# Altium footprint library Motorola Footprints.PcbLib: 408 footprints (part 15 of 26)
Each footprint in its own frame and in the unit in brackets; x right, y up, seen from the top. Pads: shape width x height; smd on the part's side, far side on the other; paste and mask are expansions set on the pad; w line width, h text height; cw(c..) or ccw(c..) is an arc to the next point about the centre after c.
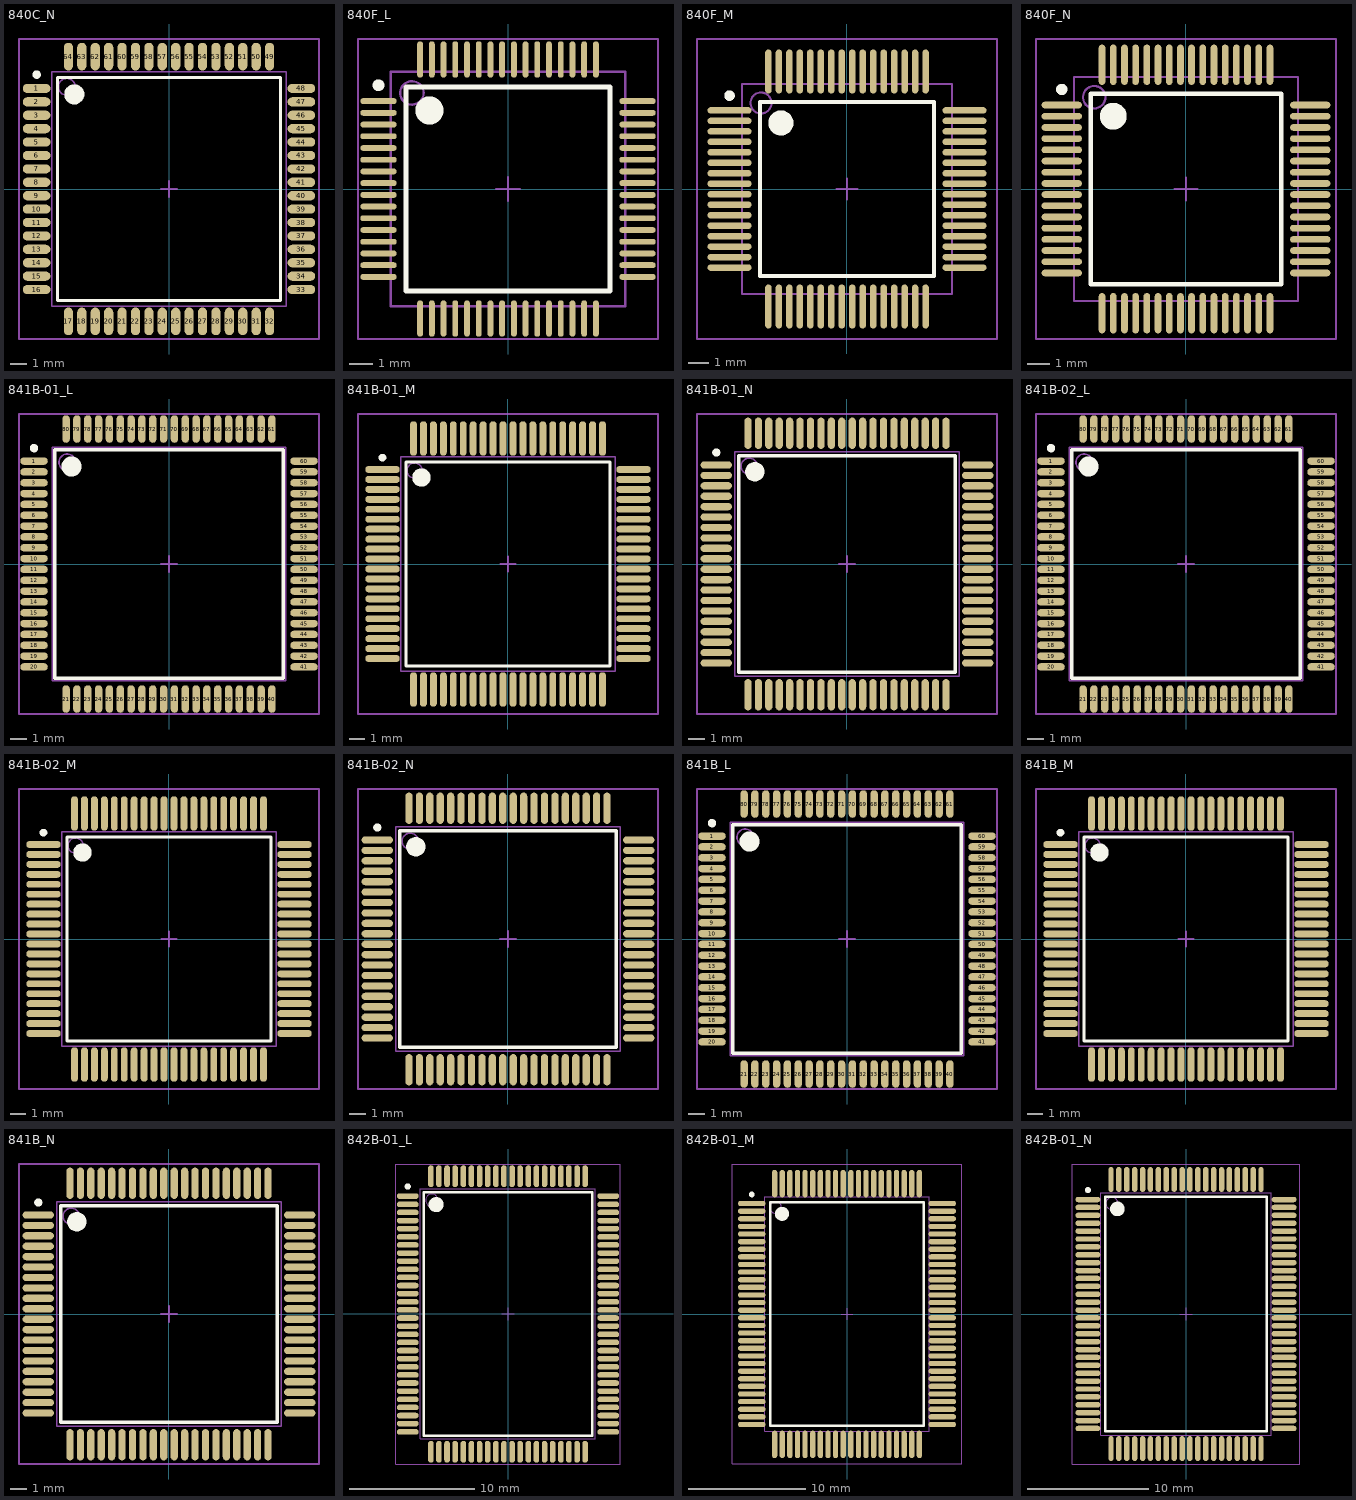
[diagram p14: the footprints below, top view; thin cyan lines are the x and y axes]

## 840C_N [mm] "64-Pin Quad Flat Pack 0.8 mm Pitch, IPC Medium Density"
height 2.46
pads (64):
  oval 1.65x0.55 smd: 1(-7.9,6) 2(-7.9,5.2) 3(-7.9,4.4) 4(-7.9,3.6) 5(-7.9,2.8) 6(-7.9,2) 7(-7.9,1.2) 8(-7.9,0.4) 9(-7.9,-0.4) 10(-7.9,-1.2) 11(-7.9,-2) 12(-7.9,-2.8) 13(-7.9,-3.6) 14(-7.9,-4.4) 15(-7.9,-5.2) 16(-7.9,-6) 33(7.9,-6) 34(7.9,-5.2) 35(7.9,-4.4) 36(7.9,-3.6) 37(7.9,-2.8) 38(7.9,-2) 39(7.9,-1.2) 40(7.9,-0.4) 41(7.9,0.4) 42(7.9,1.2) 43(7.9,2) 44(7.9,2.8) 45(7.9,3.6) 46(7.9,4.4) 47(7.9,5.2) 48(7.9,6)
  oval 0.55x1.65 smd: 17(-6,-7.9) 18(-5.2,-7.9) 19(-4.4,-7.9) 20(-3.6,-7.9) 21(-2.8,-7.9) 22(-2,-7.9) 23(-1.2,-7.9) 24(-0.4,-7.9) 25(0.4,-7.9) 26(1.2,-7.9) 27(2,-7.9) 28(2.8,-7.9) 29(3.6,-7.9) 30(4.4,-7.9) 31(5.2,-7.9) 32(6,-7.9) 49(6,7.9) 50(5.2,7.9) 51(4.4,7.9) 52(3.6,7.9) 53(2.8,7.9) 54(2,7.9) 55(1.2,7.9) 56(0.4,7.9) 57(-0.4,7.9) 58(-1.2,7.9) 59(-2,7.9) 60(-2.8,7.9) 61(-3.6,7.9) 62(-4.4,7.9) 63(-5.2,7.9) 64(-6,7.9)
Top Overlay:
  circle w0.6: c-5.65,5.65 r0.3
  circle w0.25: c-7.9,6.825 r0.125
  lines w0.2: -6.65,-6.65 6.65,-6.65 6.65,6.65 -6.65,6.65 -6.65,-6.65
Mechanical 13:
  circle w0.1: c-6.1,6.1 r0.5
  lines w0.1: -7,-7 7,-7 7,7 -7,7 -7,-7
Mechanical 15:
  lines w0.1: -0.5,0 0.5,0 ; 0,-0.5 0,0.5 ; -8.95,-8.95 8.95,-8.95 8.95,8.95 -8.95,8.95 -8.95,-8.95
3D body: height 2.46, standoff 0, extent -7,-7 7,7

## 840F_L [mm] "64-Pin Thin Quad Flat Pack 0.5 mm Pitch, IPC High Density"
height 1.6
pads (64):
  oval 1.55x0.25 smd: 1(-5.525,3.75) 2(-5.525,3.25) 3(-5.525,2.75) 4(-5.525,2.25) 5(-5.525,1.75) 6(-5.525,1.25) 7(-5.525,0.75) 8(-5.525,0.25) 9(-5.525,-0.25) 10(-5.525,-0.75) 11(-5.525,-1.25) 12(-5.525,-1.75) 13(-5.525,-2.25) 14(-5.525,-2.75) 15(-5.525,-3.25) 16(-5.525,-3.75) 33(5.525,-3.75) 34(5.525,-3.25) 35(5.525,-2.75) 36(5.525,-2.25) 37(5.525,-1.75) 38(5.525,-1.25) 39(5.525,-0.75) 40(5.525,-0.25) 41(5.525,0.25) 42(5.525,0.75) 43(5.525,1.25) 44(5.525,1.75) 45(5.525,2.25) 46(5.525,2.75) 47(5.525,3.25) 48(5.525,3.75)
  oval 0.25x1.55 smd: 17(-3.75,-5.525) 18(-3.25,-5.525) 19(-2.75,-5.525) 20(-2.25,-5.525) 21(-1.75,-5.525) 22(-1.25,-5.525) 23(-0.75,-5.525) 24(-0.25,-5.525) 25(0.25,-5.525) 26(0.75,-5.525) 27(1.25,-5.525) 28(1.75,-5.525) 29(2.25,-5.525) 30(2.75,-5.525) 31(3.25,-5.525) 32(3.75,-5.525) 49(3.75,5.525) 50(3.25,5.525) 51(2.75,5.525) 52(2.25,5.525) 53(1.75,5.525) 54(1.25,5.525) 55(0.75,5.525) 56(0.25,5.525) 57(-0.25,5.525) 58(-0.75,5.525) 59(-1.25,5.525) 60(-1.75,5.525) 61(-2.25,5.525) 62(-2.75,5.525) 63(-3.25,5.525) 64(-3.75,5.525)
Top Overlay:
  circle w0.6: c-3.35,3.35 r0.3
  circle w0.25: c-5.525,4.425 r0.125
  lines w0.2: -4.35,-4.35 4.35,-4.35 4.35,4.35 -4.35,4.35 -4.35,-4.35
Mechanical 13:
  circle w0.1: c-4.1,4.1 r0.5
  lines w0.1: -5,-5 5,-5 5,5 -5,5 -5,-5
Mechanical 15:
  lines w0.1: -0.5,0 0.5,0 ; 0,-0.5 0,0.5 ; -6.4,-6.4 6.4,-6.4 6.4,6.4 -6.4,6.4 -6.4,-6.4
3D body: height 1.6, standoff 0, extent -5,-5 5,5

## 840F_M [mm] "64-Pin Thin Quad Flat Pack 0.5 mm Pitch, IPC Low Density"
height 1.6
pads (64):
  oval 2.1x0.3 smd: 1(-5.6,3.75) 2(-5.6,3.25) 3(-5.6,2.75) 4(-5.6,2.25) 5(-5.6,1.75) 6(-5.6,1.25) 7(-5.6,0.75) 8(-5.6,0.25) 9(-5.6,-0.25) 10(-5.6,-0.75) 11(-5.6,-1.25) 12(-5.6,-1.75) 13(-5.6,-2.25) 14(-5.6,-2.75) 15(-5.6,-3.25) 16(-5.6,-3.75) 33(5.6,-3.75) 34(5.6,-3.25) 35(5.6,-2.75) 36(5.6,-2.25) 37(5.6,-1.75) 38(5.6,-1.25) 39(5.6,-0.75) 40(5.6,-0.25) 41(5.6,0.25) 42(5.6,0.75) 43(5.6,1.25) 44(5.6,1.75) 45(5.6,2.25) 46(5.6,2.75) 47(5.6,3.25) 48(5.6,3.75)
  oval 0.3x2.1 smd: 17(-3.75,-5.6) 18(-3.25,-5.6) 19(-2.75,-5.6) 20(-2.25,-5.6) 21(-1.75,-5.6) 22(-1.25,-5.6) 23(-0.75,-5.6) 24(-0.25,-5.6) 25(0.25,-5.6) 26(0.75,-5.6) 27(1.25,-5.6) 28(1.75,-5.6) 29(2.25,-5.6) 30(2.75,-5.6) 31(3.25,-5.6) 32(3.75,-5.6) 49(3.75,5.6) 50(3.25,5.6) 51(2.75,5.6) 52(2.25,5.6) 53(1.75,5.6) 54(1.25,5.6) 55(0.75,5.6) 56(0.25,5.6) 57(-0.25,5.6) 58(-0.75,5.6) 59(-1.25,5.6) 60(-1.75,5.6) 61(-2.25,5.6) 62(-2.75,5.6) 63(-3.25,5.6) 64(-3.75,5.6)
Top Overlay:
  circle w0.6: c-3.15,3.15 r0.3
  circle w0.25: c-5.6,4.45 r0.125
  lines w0.2: -4.15,-4.15 4.15,-4.15 4.15,4.15 -4.15,4.15 -4.15,-4.15
Mechanical 13:
  circle w0.1: c-4.1,4.1 r0.5
  lines w0.1: -5,-5 5,-5 5,5 -5,5 -5,-5
Mechanical 15:
  lines w0.1: -0.5,0 0.5,0 ; 0,-0.5 0,0.5 ; -7.15,-7.15 7.15,-7.15 7.15,7.15 -7.15,7.15 -7.15,-7.15
3D body: height 1.6, standoff 0, extent -5,-5 5,5

## 840F_N [mm] "64-Pin Thin Quad Flat Pack 0.5 mm Pitch, IPC Medium Density"
height 1.6
pads (64):
  oval 1.8x0.3 smd: 1(-5.55,3.75) 2(-5.55,3.25) 3(-5.55,2.75) 4(-5.55,2.25) 5(-5.55,1.75) 6(-5.55,1.25) 7(-5.55,0.75) 8(-5.55,0.25) 9(-5.55,-0.25) 10(-5.55,-0.75) 11(-5.55,-1.25) 12(-5.55,-1.75) 13(-5.55,-2.25) 14(-5.55,-2.75) 15(-5.55,-3.25) 16(-5.55,-3.75) 33(5.55,-3.75) 34(5.55,-3.25) 35(5.55,-2.75) 36(5.55,-2.25) 37(5.55,-1.75) 38(5.55,-1.25) 39(5.55,-0.75) 40(5.55,-0.25) 41(5.55,0.25) 42(5.55,0.75) 43(5.55,1.25) 44(5.55,1.75) 45(5.55,2.25) 46(5.55,2.75) 47(5.55,3.25) 48(5.55,3.75)
  oval 0.3x1.8 smd: 17(-3.75,-5.55) 18(-3.25,-5.55) 19(-2.75,-5.55) 20(-2.25,-5.55) 21(-1.75,-5.55) 22(-1.25,-5.55) 23(-0.75,-5.55) 24(-0.25,-5.55) 25(0.25,-5.55) 26(0.75,-5.55) 27(1.25,-5.55) 28(1.75,-5.55) 29(2.25,-5.55) 30(2.75,-5.55) 31(3.25,-5.55) 32(3.75,-5.55) 49(3.75,5.55) 50(3.25,5.55) 51(2.75,5.55) 52(2.25,5.55) 53(1.75,5.55) 54(1.25,5.55) 55(0.75,5.55) 56(0.25,5.55) 57(-0.25,5.55) 58(-0.75,5.55) 59(-1.25,5.55) 60(-1.75,5.55) 61(-2.25,5.55) 62(-2.75,5.55) 63(-3.25,5.55) 64(-3.75,5.55)
Top Overlay:
  circle w0.25: c-5.55,4.45 r0.125
  circle w0.6: c-3.25,3.25 r0.3
  lines w0.2: -4.25,-4.25 -4.25,4.25 4.25,4.25 4.25,-4.25 -4.25,-4.25
Mechanical 13:
  circle w0.1: c-4.1,4.1 r0.5
  lines w0.1: -5,-5 -5,5 5,5 5,-5 -5,-5
Mechanical 15:
  lines w0.1: -0.5,0 0.5,0 ; 0,-0.5 0,0.5 ; -6.7,-6.7 -6.7,6.7 6.7,6.7 6.7,-6.7 -6.7,-6.7
3D body: height 1.6, standoff 0, extent -5,-5 5,5

## 841B-01_L [mm] "80-Pin Quad Flat Pack 0.65 mm Pitch, IPC High Density"
height 2.45
pads (80):
  oval 1.65x0.45 smd: 1(-8.1,6.175) 2(-8.1,5.525) 3(-8.1,4.875) 4(-8.1,4.225) 5(-8.1,3.575) 6(-8.1,2.925) 7(-8.1,2.275) 8(-8.1,1.625) 9(-8.1,0.975) 10(-8.1,0.325) 11(-8.1,-0.325) 12(-8.1,-0.975) 13(-8.1,-1.625) 14(-8.1,-2.275) 15(-8.1,-2.925) 16(-8.1,-3.575) 17(-8.1,-4.225) 18(-8.1,-4.875) 19(-8.1,-5.525) 20(-8.1,-6.175) 41(8.1,-6.175) 42(8.1,-5.525) 43(8.1,-4.875) 44(8.1,-4.225) 45(8.1,-3.575) 46(8.1,-2.925) 47(8.1,-2.275) 48(8.1,-1.625) 49(8.1,-0.975) 50(8.1,-0.325) 51(8.1,0.325) 52(8.1,0.975) 53(8.1,1.625) 54(8.1,2.275) 55(8.1,2.925) 56(8.1,3.575) 57(8.1,4.225) 58(8.1,4.875) 59(8.1,5.525) 60(8.1,6.175)
  oval 0.45x1.65 smd: 21(-6.175,-8.1) 22(-5.525,-8.1) 23(-4.875,-8.1) 24(-4.225,-8.1) 25(-3.575,-8.1) 26(-2.925,-8.1) 27(-2.275,-8.1) 28(-1.625,-8.1) 29(-0.975,-8.1) 30(-0.325,-8.1) 31(0.325,-8.1) 32(0.975,-8.1) 33(1.625,-8.1) 34(2.275,-8.1) 35(2.925,-8.1) 36(3.575,-8.1) 37(4.225,-8.1) 38(4.875,-8.1) 39(5.525,-8.1) 40(6.175,-8.1) 61(6.175,8.1) 62(5.525,8.1) 63(4.875,8.1) 64(4.225,8.1) 65(3.575,8.1) 66(2.925,8.1) 67(2.275,8.1) 68(1.625,8.1) 69(0.975,8.1) 70(0.325,8.1) 71(-0.325,8.1) 72(-0.975,8.1) 73(-1.625,8.1) 74(-2.275,8.1) 75(-2.925,8.1) 76(-3.575,8.1) 77(-4.225,8.1) 78(-4.875,8.1) 79(-5.525,8.1) 80(-6.175,8.1)
Top Overlay:
  circle w0.6: c-5.85,5.85 r0.3
  circle w0.25: c-8.1,6.95 r0.125
  lines w0.2: -6.85,-6.85 6.85,-6.85 6.85,6.85 -6.85,6.85 -6.85,-6.85
Mechanical 13:
  circle w0.1: c-6.1,6.1 r0.5
  lines w0.1: -7,-7 7,-7 7,7 -7,7 -7,-7
Mechanical 15:
  lines w0.1: -0.5,0 0.5,0 ; 0,-0.5 0,0.5 ; -9,-9 9,-9 9,9 -9,9 -9,-9
3D body: height 2.45, standoff 0, extent -7,-7 7,7

## 841B-01_M [mm] "80-Pin Quad Flat Pack 0.65 mm Pitch, IPC Low Density"
height 2.45
pads (80):
  oval 2.25x0.45 smd: 1(-8.2,6.175) 2(-8.2,5.525) 3(-8.2,4.875) 4(-8.2,4.225) 5(-8.2,3.575) 6(-8.2,2.925) 7(-8.2,2.275) 8(-8.2,1.625) 9(-8.2,0.975) 10(-8.2,0.325) 11(-8.2,-0.325) 12(-8.2,-0.975) 13(-8.2,-1.625) 14(-8.2,-2.275) 15(-8.2,-2.925) 16(-8.2,-3.575) 17(-8.2,-4.225) 18(-8.2,-4.875) 19(-8.2,-5.525) 20(-8.2,-6.175) 41(8.2,-6.175) 42(8.2,-5.525) 43(8.2,-4.875) 44(8.2,-4.225) 45(8.2,-3.575) 46(8.2,-2.925) 47(8.2,-2.275) 48(8.2,-1.625) 49(8.2,-0.975) 50(8.2,-0.325) 51(8.2,0.325) 52(8.2,0.975) 53(8.2,1.625) 54(8.2,2.275) 55(8.2,2.925) 56(8.2,3.575) 57(8.2,4.225) 58(8.2,4.875) 59(8.2,5.525) 60(8.2,6.175)
  oval 0.45x2.25 smd: 21(-6.175,-8.2) 22(-5.525,-8.2) 23(-4.875,-8.2) 24(-4.225,-8.2) 25(-3.575,-8.2) 26(-2.925,-8.2) 27(-2.275,-8.2) 28(-1.625,-8.2) 29(-0.975,-8.2) 30(-0.325,-8.2) 31(0.325,-8.2) 32(0.975,-8.2) 33(1.625,-8.2) 34(2.275,-8.2) 35(2.925,-8.2) 36(3.575,-8.2) 37(4.225,-8.2) 38(4.875,-8.2) 39(5.525,-8.2) 40(6.175,-8.2) 61(6.175,8.2) 62(5.525,8.2) 63(4.875,8.2) 64(4.225,8.2) 65(3.575,8.2) 66(2.925,8.2) 67(2.275,8.2) 68(1.625,8.2) 69(0.975,8.2) 70(0.325,8.2) 71(-0.325,8.2) 72(-0.975,8.2) 73(-1.625,8.2) 74(-2.275,8.2) 75(-2.925,8.2) 76(-3.575,8.2) 77(-4.225,8.2) 78(-4.875,8.2) 79(-5.525,8.2) 80(-6.175,8.2)
Top Overlay:
  circle w0.6: c-5.65,5.65 r0.3
  circle w0.25: c-8.2,6.95 r0.125
  lines w0.2: -6.65,-6.65 6.65,-6.65 6.65,6.65 -6.65,6.65 -6.65,-6.65
Mechanical 13:
  circle w0.1: c-6.1,6.1 r0.5
  lines w0.1: -7,-7 7,-7 7,7 -7,7 -7,-7
Mechanical 15:
  lines w0.1: -0.5,0 0.5,0 ; 0,-0.5 0,0.5 ; -9.8,-9.8 9.8,-9.8 9.8,9.8 -9.8,9.8 -9.8,-9.8
3D body: height 2.45, standoff 0, extent -7,-7 7,7

## 841B-01_N [mm] "80-Pin Quad Flat Pack 0.65 mm Pitch, IPC Medium Density"
height 2.45
pads (80):
  oval 1.95x0.45 smd: 1(-8.15,6.175) 2(-8.15,5.525) 3(-8.15,4.875) 4(-8.15,4.225) 5(-8.15,3.575) 6(-8.15,2.925) 7(-8.15,2.275) 8(-8.15,1.625) 9(-8.15,0.975) 10(-8.15,0.325) 11(-8.15,-0.325) 12(-8.15,-0.975) 13(-8.15,-1.625) 14(-8.15,-2.275) 15(-8.15,-2.925) 16(-8.15,-3.575) 17(-8.15,-4.225) 18(-8.15,-4.875) 19(-8.15,-5.525) 20(-8.15,-6.175) 41(8.15,-6.175) 42(8.15,-5.525) 43(8.15,-4.875) 44(8.15,-4.225) 45(8.15,-3.575) 46(8.15,-2.925) 47(8.15,-2.275) 48(8.15,-1.625) 49(8.15,-0.975) 50(8.15,-0.325) 51(8.15,0.325) 52(8.15,0.975) 53(8.15,1.625) 54(8.15,2.275) 55(8.15,2.925) 56(8.15,3.575) 57(8.15,4.225) 58(8.15,4.875) 59(8.15,5.525) 60(8.15,6.175)
  oval 0.45x1.95 smd: 21(-6.175,-8.15) 22(-5.525,-8.15) 23(-4.875,-8.15) 24(-4.225,-8.15) 25(-3.575,-8.15) 26(-2.925,-8.15) 27(-2.275,-8.15) 28(-1.625,-8.15) 29(-0.975,-8.15) 30(-0.325,-8.15) 31(0.325,-8.15) 32(0.975,-8.15) 33(1.625,-8.15) 34(2.275,-8.15) 35(2.925,-8.15) 36(3.575,-8.15) 37(4.225,-8.15) 38(4.875,-8.15) 39(5.525,-8.15) 40(6.175,-8.15) 61(6.175,8.15) 62(5.525,8.15) 63(4.875,8.15) 64(4.225,8.15) 65(3.575,8.15) 66(2.925,8.15) 67(2.275,8.15) 68(1.625,8.15) 69(0.975,8.15) 70(0.325,8.15) 71(-0.325,8.15) 72(-0.975,8.15) 73(-1.625,8.15) 74(-2.275,8.15) 75(-2.925,8.15) 76(-3.575,8.15) 77(-4.225,8.15) 78(-4.875,8.15) 79(-5.525,8.15) 80(-6.175,8.15)
Top Overlay:
  circle w0.6: c-5.75,5.75 r0.3
  circle w0.25: c-8.15,6.95 r0.125
  lines w0.2: -6.75,-6.75 6.75,-6.75 6.75,6.75 -6.75,6.75 -6.75,-6.75
Mechanical 13:
  circle w0.1: c-6.1,6.1 r0.5
  lines w0.1: -7,-7 7,-7 7,7 -7,7 -7,-7
Mechanical 15:
  lines w0.1: -0.5,0 0.5,0 ; 0,-0.5 0,0.5 ; -9.35,-9.35 9.35,-9.35 9.35,9.35 -9.35,9.35 -9.35,-9.35
3D body: height 2.45, standoff 0, extent -7,-7 7,7

## 841B-02_L [mm] "80-Pin Quad Flat Pack 0.65 mm Pitch, IPC High Density"
height 2.45
pads (80):
  oval 1.65x0.45 smd: 1(-8.1,6.175) 2(-8.1,5.525) 3(-8.1,4.875) 4(-8.1,4.225) 5(-8.1,3.575) 6(-8.1,2.925) 7(-8.1,2.275) 8(-8.1,1.625) 9(-8.1,0.975) 10(-8.1,0.325) 11(-8.1,-0.325) 12(-8.1,-0.975) 13(-8.1,-1.625) 14(-8.1,-2.275) 15(-8.1,-2.925) 16(-8.1,-3.575) 17(-8.1,-4.225) 18(-8.1,-4.875) 19(-8.1,-5.525) 20(-8.1,-6.175) 41(8.1,-6.175) 42(8.1,-5.525) 43(8.1,-4.875) 44(8.1,-4.225) 45(8.1,-3.575) 46(8.1,-2.925) 47(8.1,-2.275) 48(8.1,-1.625) 49(8.1,-0.975) 50(8.1,-0.325) 51(8.1,0.325) 52(8.1,0.975) 53(8.1,1.625) 54(8.1,2.275) 55(8.1,2.925) 56(8.1,3.575) 57(8.1,4.225) 58(8.1,4.875) 59(8.1,5.525) 60(8.1,6.175)
  oval 0.45x1.65 smd: 21(-6.175,-8.1) 22(-5.525,-8.1) 23(-4.875,-8.1) 24(-4.225,-8.1) 25(-3.575,-8.1) 26(-2.925,-8.1) 27(-2.275,-8.1) 28(-1.625,-8.1) 29(-0.975,-8.1) 30(-0.325,-8.1) 31(0.325,-8.1) 32(0.975,-8.1) 33(1.625,-8.1) 34(2.275,-8.1) 35(2.925,-8.1) 36(3.575,-8.1) 37(4.225,-8.1) 38(4.875,-8.1) 39(5.525,-8.1) 40(6.175,-8.1) 61(6.175,8.1) 62(5.525,8.1) 63(4.875,8.1) 64(4.225,8.1) 65(3.575,8.1) 66(2.925,8.1) 67(2.275,8.1) 68(1.625,8.1) 69(0.975,8.1) 70(0.325,8.1) 71(-0.325,8.1) 72(-0.975,8.1) 73(-1.625,8.1) 74(-2.275,8.1) 75(-2.925,8.1) 76(-3.575,8.1) 77(-4.225,8.1) 78(-4.875,8.1) 79(-5.525,8.1) 80(-6.175,8.1)
Top Overlay:
  circle w0.6: c-5.85,5.85 r0.3
  circle w0.25: c-8.1,6.95 r0.125
  lines w0.2: -6.85,-6.85 6.85,-6.85 6.85,6.85 -6.85,6.85 -6.85,-6.85
Mechanical 13:
  circle w0.1: c-6.1,6.1 r0.5
  lines w0.1: -7,-7 7,-7 7,7 -7,7 -7,-7
Mechanical 15:
  lines w0.1: -0.5,0 0.5,0 ; 0,-0.5 0,0.5 ; -9,-9 9,-9 9,9 -9,9 -9,-9
3D body: height 2.45, standoff 0, extent -7,-7 7,7

## 841B-02_M [mm] "80-Pin Quad Flat Pack 0.65 mm Pitch, IPC Low Density"
height 2.45
pads (80):
  oval 2.25x0.45 smd: 1(-8.2,6.175) 2(-8.2,5.525) 3(-8.2,4.875) 4(-8.2,4.225) 5(-8.2,3.575) 6(-8.2,2.925) 7(-8.2,2.275) 8(-8.2,1.625) 9(-8.2,0.975) 10(-8.2,0.325) 11(-8.2,-0.325) 12(-8.2,-0.975) 13(-8.2,-1.625) 14(-8.2,-2.275) 15(-8.2,-2.925) 16(-8.2,-3.575) 17(-8.2,-4.225) 18(-8.2,-4.875) 19(-8.2,-5.525) 20(-8.2,-6.175) 41(8.2,-6.175) 42(8.2,-5.525) 43(8.2,-4.875) 44(8.2,-4.225) 45(8.2,-3.575) 46(8.2,-2.925) 47(8.2,-2.275) 48(8.2,-1.625) 49(8.2,-0.975) 50(8.2,-0.325) 51(8.2,0.325) 52(8.2,0.975) 53(8.2,1.625) 54(8.2,2.275) 55(8.2,2.925) 56(8.2,3.575) 57(8.2,4.225) 58(8.2,4.875) 59(8.2,5.525) 60(8.2,6.175)
  oval 0.45x2.25 smd: 21(-6.175,-8.2) 22(-5.525,-8.2) 23(-4.875,-8.2) 24(-4.225,-8.2) 25(-3.575,-8.2) 26(-2.925,-8.2) 27(-2.275,-8.2) 28(-1.625,-8.2) 29(-0.975,-8.2) 30(-0.325,-8.2) 31(0.325,-8.2) 32(0.975,-8.2) 33(1.625,-8.2) 34(2.275,-8.2) 35(2.925,-8.2) 36(3.575,-8.2) 37(4.225,-8.2) 38(4.875,-8.2) 39(5.525,-8.2) 40(6.175,-8.2) 61(6.175,8.2) 62(5.525,8.2) 63(4.875,8.2) 64(4.225,8.2) 65(3.575,8.2) 66(2.925,8.2) 67(2.275,8.2) 68(1.625,8.2) 69(0.975,8.2) 70(0.325,8.2) 71(-0.325,8.2) 72(-0.975,8.2) 73(-1.625,8.2) 74(-2.275,8.2) 75(-2.925,8.2) 76(-3.575,8.2) 77(-4.225,8.2) 78(-4.875,8.2) 79(-5.525,8.2) 80(-6.175,8.2)
Top Overlay:
  circle w0.6: c-5.65,5.65 r0.3
  circle w0.25: c-8.2,6.95 r0.125
  lines w0.2: -6.65,-6.65 6.65,-6.65 6.65,6.65 -6.65,6.65 -6.65,-6.65
Mechanical 13:
  circle w0.1: c-6.1,6.1 r0.5
  lines w0.1: -7,-7 7,-7 7,7 -7,7 -7,-7
Mechanical 15:
  lines w0.1: -0.5,0 0.5,0 ; 0,-0.5 0,0.5 ; -9.8,-9.8 9.8,-9.8 9.8,9.8 -9.8,9.8 -9.8,-9.8
3D body: height 2.45, standoff 0, extent -7,-7 7,7

## 841B-02_N [mm] "80-Pin Quad Flat Pack 0.65 mm Pitch, IPC Medium Density"
height 2.45
pads (80):
  oval 1.95x0.45 smd: 1(-8.15,6.175) 2(-8.15,5.525) 3(-8.15,4.875) 4(-8.15,4.225) 5(-8.15,3.575) 6(-8.15,2.925) 7(-8.15,2.275) 8(-8.15,1.625) 9(-8.15,0.975) 10(-8.15,0.325) 11(-8.15,-0.325) 12(-8.15,-0.975) 13(-8.15,-1.625) 14(-8.15,-2.275) 15(-8.15,-2.925) 16(-8.15,-3.575) 17(-8.15,-4.225) 18(-8.15,-4.875) 19(-8.15,-5.525) 20(-8.15,-6.175) 41(8.15,-6.175) 42(8.15,-5.525) 43(8.15,-4.875) 44(8.15,-4.225) 45(8.15,-3.575) 46(8.15,-2.925) 47(8.15,-2.275) 48(8.15,-1.625) 49(8.15,-0.975) 50(8.15,-0.325) 51(8.15,0.325) 52(8.15,0.975) 53(8.15,1.625) 54(8.15,2.275) 55(8.15,2.925) 56(8.15,3.575) 57(8.15,4.225) 58(8.15,4.875) 59(8.15,5.525) 60(8.15,6.175)
  oval 0.45x1.95 smd: 21(-6.175,-8.15) 22(-5.525,-8.15) 23(-4.875,-8.15) 24(-4.225,-8.15) 25(-3.575,-8.15) 26(-2.925,-8.15) 27(-2.275,-8.15) 28(-1.625,-8.15) 29(-0.975,-8.15) 30(-0.325,-8.15) 31(0.325,-8.15) 32(0.975,-8.15) 33(1.625,-8.15) 34(2.275,-8.15) 35(2.925,-8.15) 36(3.575,-8.15) 37(4.225,-8.15) 38(4.875,-8.15) 39(5.525,-8.15) 40(6.175,-8.15) 61(6.175,8.15) 62(5.525,8.15) 63(4.875,8.15) 64(4.225,8.15) 65(3.575,8.15) 66(2.925,8.15) 67(2.275,8.15) 68(1.625,8.15) 69(0.975,8.15) 70(0.325,8.15) 71(-0.325,8.15) 72(-0.975,8.15) 73(-1.625,8.15) 74(-2.275,8.15) 75(-2.925,8.15) 76(-3.575,8.15) 77(-4.225,8.15) 78(-4.875,8.15) 79(-5.525,8.15) 80(-6.175,8.15)
Top Overlay:
  circle w0.6: c-5.75,5.75 r0.3
  circle w0.25: c-8.15,6.95 r0.125
  lines w0.2: -6.75,-6.75 6.75,-6.75 6.75,6.75 -6.75,6.75 -6.75,-6.75
Mechanical 13:
  circle w0.1: c-6.1,6.1 r0.5
  lines w0.1: -7,-7 7,-7 7,7 -7,7 -7,-7
Mechanical 15:
  lines w0.1: -0.5,0 0.5,0 ; 0,-0.5 0,0.5 ; -9.35,-9.35 9.35,-9.35 9.35,9.35 -9.35,9.35 -9.35,-9.35
3D body: height 2.45, standoff 0, extent -7,-7 7,7

## 841B_L [mm] "80-Pin Plastic Quad Flat Pack 0.65 mm Pitch, IPC High Density"
height 2.45
pads (80):
  oval 1.65x0.45 smd: 1(-8.1,6.175) 2(-8.1,5.525) 3(-8.1,4.875) 4(-8.1,4.225) 5(-8.1,3.575) 6(-8.1,2.925) 7(-8.1,2.275) 8(-8.1,1.625) 9(-8.1,0.975) 10(-8.1,0.325) 11(-8.1,-0.325) 12(-8.1,-0.975) 13(-8.1,-1.625) 14(-8.1,-2.275) 15(-8.1,-2.925) 16(-8.1,-3.575) 17(-8.1,-4.225) 18(-8.1,-4.875) 19(-8.1,-5.525) 20(-8.1,-6.175) 41(8.1,-6.175) 42(8.1,-5.525) 43(8.1,-4.875) 44(8.1,-4.225) 45(8.1,-3.575) 46(8.1,-2.925) 47(8.1,-2.275) 48(8.1,-1.625) 49(8.1,-0.975) 50(8.1,-0.325) 51(8.1,0.325) 52(8.1,0.975) 53(8.1,1.625) 54(8.1,2.275) 55(8.1,2.925) 56(8.1,3.575) 57(8.1,4.225) 58(8.1,4.875) 59(8.1,5.525) 60(8.1,6.175)
  oval 0.45x1.65 smd: 21(-6.175,-8.1) 22(-5.525,-8.1) 23(-4.875,-8.1) 24(-4.225,-8.1) 25(-3.575,-8.1) 26(-2.925,-8.1) 27(-2.275,-8.1) 28(-1.625,-8.1) 29(-0.975,-8.1) 30(-0.325,-8.1) 31(0.325,-8.1) 32(0.975,-8.1) 33(1.625,-8.1) 34(2.275,-8.1) 35(2.925,-8.1) 36(3.575,-8.1) 37(4.225,-8.1) 38(4.875,-8.1) 39(5.525,-8.1) 40(6.175,-8.1) 61(6.175,8.1) 62(5.525,8.1) 63(4.875,8.1) 64(4.225,8.1) 65(3.575,8.1) 66(2.925,8.1) 67(2.275,8.1) 68(1.625,8.1) 69(0.975,8.1) 70(0.325,8.1) 71(-0.325,8.1) 72(-0.975,8.1) 73(-1.625,8.1) 74(-2.275,8.1) 75(-2.925,8.1) 76(-3.575,8.1) 77(-4.225,8.1) 78(-4.875,8.1) 79(-5.525,8.1) 80(-6.175,8.1)
Top Overlay:
  circle w0.6: c-5.85,5.85 r0.3
  circle w0.25: c-8.1,6.95 r0.125
  lines w0.2: -6.85,-6.85 6.85,-6.85 6.85,6.85 -6.85,6.85 -6.85,-6.85
Mechanical 13:
  circle w0.1: c-6.1,6.1 r0.5
  lines w0.1: -7,-7 7,-7 7,7 -7,7 -7,-7
Mechanical 15:
  lines w0.1: -0.5,0 0.5,0 ; 0,-0.5 0,0.5 ; -9,-9 9,-9 9,9 -9,9 -9,-9
3D body: height 2.45, standoff 0, extent -7,-7 7,7

## 841B_M [mm] "80-Pin Plastic Quad Flat Pack 0.65 mm Pitch, IPC Low Density"
height 2.45
pads (80):
  oval 2.25x0.45 smd: 1(-8.2,6.175) 2(-8.2,5.525) 3(-8.2,4.875) 4(-8.2,4.225) 5(-8.2,3.575) 6(-8.2,2.925) 7(-8.2,2.275) 8(-8.2,1.625) 9(-8.2,0.975) 10(-8.2,0.325) 11(-8.2,-0.325) 12(-8.2,-0.975) 13(-8.2,-1.625) 14(-8.2,-2.275) 15(-8.2,-2.925) 16(-8.2,-3.575) 17(-8.2,-4.225) 18(-8.2,-4.875) 19(-8.2,-5.525) 20(-8.2,-6.175) 41(8.2,-6.175) 42(8.2,-5.525) 43(8.2,-4.875) 44(8.2,-4.225) 45(8.2,-3.575) 46(8.2,-2.925) 47(8.2,-2.275) 48(8.2,-1.625) 49(8.2,-0.975) 50(8.2,-0.325) 51(8.2,0.325) 52(8.2,0.975) 53(8.2,1.625) 54(8.2,2.275) 55(8.2,2.925) 56(8.2,3.575) 57(8.2,4.225) 58(8.2,4.875) 59(8.2,5.525) 60(8.2,6.175)
  oval 0.45x2.25 smd: 21(-6.175,-8.2) 22(-5.525,-8.2) 23(-4.875,-8.2) 24(-4.225,-8.2) 25(-3.575,-8.2) 26(-2.925,-8.2) 27(-2.275,-8.2) 28(-1.625,-8.2) 29(-0.975,-8.2) 30(-0.325,-8.2) 31(0.325,-8.2) 32(0.975,-8.2) 33(1.625,-8.2) 34(2.275,-8.2) 35(2.925,-8.2) 36(3.575,-8.2) 37(4.225,-8.2) 38(4.875,-8.2) 39(5.525,-8.2) 40(6.175,-8.2) 61(6.175,8.2) 62(5.525,8.2) 63(4.875,8.2) 64(4.225,8.2) 65(3.575,8.2) 66(2.925,8.2) 67(2.275,8.2) 68(1.625,8.2) 69(0.975,8.2) 70(0.325,8.2) 71(-0.325,8.2) 72(-0.975,8.2) 73(-1.625,8.2) 74(-2.275,8.2) 75(-2.925,8.2) 76(-3.575,8.2) 77(-4.225,8.2) 78(-4.875,8.2) 79(-5.525,8.2) 80(-6.175,8.2)
Top Overlay:
  circle w0.6: c-5.65,5.65 r0.3
  circle w0.25: c-8.2,6.95 r0.125
  lines w0.2: -6.65,-6.65 6.65,-6.65 6.65,6.65 -6.65,6.65 -6.65,-6.65
Mechanical 13:
  circle w0.1: c-6.1,6.1 r0.5
  lines w0.1: -7,-7 7,-7 7,7 -7,7 -7,-7
Mechanical 15:
  lines w0.1: -0.5,0 0.5,0 ; 0,-0.5 0,0.5 ; -9.8,-9.8 9.8,-9.8 9.8,9.8 -9.8,9.8 -9.8,-9.8
3D body: height 2.45, standoff 0, extent -7,-7 7,7

## 841B_N [mm] "80-Pin Plastic Quad Flat Pack 0.65 mm Pitch, IPC Medium Density"
height 2.45
pads (80):
  oval 1.95x0.45 smd: 1(-8.15,6.175) 2(-8.15,5.525) 3(-8.15,4.875) 4(-8.15,4.225) 5(-8.15,3.575) 6(-8.15,2.925) 7(-8.15,2.275) 8(-8.15,1.625) 9(-8.15,0.975) 10(-8.15,0.325) 11(-8.15,-0.325) 12(-8.15,-0.975) 13(-8.15,-1.625) 14(-8.15,-2.275) 15(-8.15,-2.925) 16(-8.15,-3.575) 17(-8.15,-4.225) 18(-8.15,-4.875) 19(-8.15,-5.525) 20(-8.15,-6.175) 41(8.15,-6.175) 42(8.15,-5.525) 43(8.15,-4.875) 44(8.15,-4.225) 45(8.15,-3.575) 46(8.15,-2.925) 47(8.15,-2.275) 48(8.15,-1.625) 49(8.15,-0.975) 50(8.15,-0.325) 51(8.15,0.325) 52(8.15,0.975) 53(8.15,1.625) 54(8.15,2.275) 55(8.15,2.925) 56(8.15,3.575) 57(8.15,4.225) 58(8.15,4.875) 59(8.15,5.525) 60(8.15,6.175)
  oval 0.45x1.95 smd: 21(-6.175,-8.15) 22(-5.525,-8.15) 23(-4.875,-8.15) 24(-4.225,-8.15) 25(-3.575,-8.15) 26(-2.925,-8.15) 27(-2.275,-8.15) 28(-1.625,-8.15) 29(-0.975,-8.15) 30(-0.325,-8.15) 31(0.325,-8.15) 32(0.975,-8.15) 33(1.625,-8.15) 34(2.275,-8.15) 35(2.925,-8.15) 36(3.575,-8.15) 37(4.225,-8.15) 38(4.875,-8.15) 39(5.525,-8.15) 40(6.175,-8.15) 61(6.175,8.15) 62(5.525,8.15) 63(4.875,8.15) 64(4.225,8.15) 65(3.575,8.15) 66(2.925,8.15) 67(2.275,8.15) 68(1.625,8.15) 69(0.975,8.15) 70(0.325,8.15) 71(-0.325,8.15) 72(-0.975,8.15) 73(-1.625,8.15) 74(-2.275,8.15) 75(-2.925,8.15) 76(-3.575,8.15) 77(-4.225,8.15) 78(-4.875,8.15) 79(-5.525,8.15) 80(-6.175,8.15)
Top Overlay:
  circle w0.6: c-5.75,5.75 r0.3
  circle w0.25: c-8.15,6.95 r0.125
  lines w0.2: -6.75,-6.75 6.75,-6.75 6.75,6.75 -6.75,6.75 -6.75,-6.75
Mechanical 13:
  circle w0.1: c-6.1,6.1 r0.5
  lines w0.1: -7,-7 7,-7 7,7 -7,7 -7,-7
Mechanical 15:
  lines w0.1: -0.5,0 0.5,0 ; 0,-0.5 0,0.5 ; -9.35,-9.35 9.35,-9.35 9.35,9.35 -9.35,9.35 -9.35,-9.35
3D body: height 2.45, standoff 0, extent -7,-7 7,7

## 842B-01_L [mm] "100-Pin Quad Flat Pack Rectangular 0.65 mm Pitch, IPC High Density"
height 3.15
pads (100):
  oval 1.75x0.45 smd: 1(-8.025,9.425) 2(-8.025,8.775) 3(-8.025,8.125) 4(-8.025,7.475) 5(-8.025,6.825) 6(-8.025,6.175) 7(-8.025,5.525) 8(-8.025,4.875) 9(-8.025,4.225) 10(-8.025,3.575) 11(-8.025,2.925) 12(-8.025,2.275) 13(-8.025,1.625) 14(-8.025,0.975) 15(-8.025,0.325) 16(-8.025,-0.325) 17(-8.025,-0.975) 18(-8.025,-1.625) 19(-8.025,-2.275) 20(-8.025,-2.925) 21(-8.025,-3.575) 22(-8.025,-4.225) 23(-8.025,-4.875) 24(-8.025,-5.525) 25(-8.025,-6.175) 26(-8.025,-6.825) 27(-8.025,-7.475) 28(-8.025,-8.125) 29(-8.025,-8.775) 30(-8.025,-9.425) 51(8.025,-9.425) 52(8.025,-8.775) 53(8.025,-8.125) 54(8.025,-7.475) 55(8.025,-6.825) 56(8.025,-6.175) 57(8.025,-5.525) 58(8.025,-4.875) 59(8.025,-4.225) 60(8.025,-3.575) 61(8.025,-2.925) 62(8.025,-2.275) 63(8.025,-1.625) 64(8.025,-0.975) 65(8.025,-0.325) 66(8.025,0.325) 67(8.025,0.975) 68(8.025,1.625) 69(8.025,2.275) 70(8.025,2.925) 71(8.025,3.575) 72(8.025,4.225) 73(8.025,4.875) 74(8.025,5.525) 75(8.025,6.175) 76(8.025,6.825) 77(8.025,7.475) 78(8.025,8.125) 79(8.025,8.775) 80(8.025,9.425)
  oval 0.45x1.75 smd: 31(-6.175,-11.025) 32(-5.525,-11.025) 33(-4.875,-11.025) 34(-4.225,-11.025) 35(-3.575,-11.025) 36(-2.925,-11.025) 37(-2.275,-11.025) 38(-1.625,-11.025) 39(-0.975,-11.025) 40(-0.325,-11.025) 41(0.325,-11.025) 42(0.975,-11.025) 43(1.625,-11.025) 44(2.275,-11.025) 45(2.925,-11.025) 46(3.575,-11.025) 47(4.225,-11.025) 48(4.875,-11.025) 49(5.525,-11.025) 50(6.175,-11.025) 81(6.175,11.025) 82(5.525,11.025) 83(4.875,11.025) 84(4.225,11.025) 85(3.575,11.025) 86(2.925,11.025) 87(2.275,11.025) 88(1.625,11.025) 89(0.975,11.025) 90(0.325,11.025) 91(-0.325,11.025) 92(-0.975,11.025) 93(-1.625,11.025) 94(-2.275,11.025) 95(-2.925,11.025) 96(-3.575,11.025) 97(-4.225,11.025) 98(-4.875,11.025) 99(-5.525,11.025) 100(-6.175,11.025)
Top Overlay:
  circle w0.6: c-5.75,8.75 r0.3
  circle w0.25: c-8.025,10.2 r0.125
  lines w0.2: -6.75,-9.75 6.75,-9.75 6.75,9.75 -6.75,9.75 -6.75,-9.75
Mechanical 13:
  circle w0.1: c-6.1,9.1 r0.5
  lines w0.1: -7,-10 7,-10 7,10 -7,10 -7,-10
Mechanical 15:
  lines w0.1: -0.5,0 0.5,0 ; 0,-0.5 0,0.5 ; -9,-12 9,-12 9,12 -9,12 -9,-12
3D body: height 3.15, standoff 0, extent -7,-10 7,10

## 842B-01_M [mm] "100-Pin Quad Flat Pack Rectangular 0.65 mm Pitch, IPC Low Density"
height 3.15
pads (100):
  oval 2.35x0.45 smd: 1(-8.125,9.425) 2(-8.125,8.775) 3(-8.125,8.125) 4(-8.125,7.475) 5(-8.125,6.825) 6(-8.125,6.175) 7(-8.125,5.525) 8(-8.125,4.875) 9(-8.125,4.225) 10(-8.125,3.575) 11(-8.125,2.925) 12(-8.125,2.275) 13(-8.125,1.625) 14(-8.125,0.975) 15(-8.125,0.325) 16(-8.125,-0.325) 17(-8.125,-0.975) 18(-8.125,-1.625) 19(-8.125,-2.275) 20(-8.125,-2.925) 21(-8.125,-3.575) 22(-8.125,-4.225) 23(-8.125,-4.875) 24(-8.125,-5.525) 25(-8.125,-6.175) 26(-8.125,-6.825) 27(-8.125,-7.475) 28(-8.125,-8.125) 29(-8.125,-8.775) 30(-8.125,-9.425) 51(8.125,-9.425) 52(8.125,-8.775) 53(8.125,-8.125) 54(8.125,-7.475) 55(8.125,-6.825) 56(8.125,-6.175) 57(8.125,-5.525) 58(8.125,-4.875) 59(8.125,-4.225) 60(8.125,-3.575) 61(8.125,-2.925) 62(8.125,-2.275) 63(8.125,-1.625) 64(8.125,-0.975) 65(8.125,-0.325) 66(8.125,0.325) 67(8.125,0.975) 68(8.125,1.625) 69(8.125,2.275) 70(8.125,2.925) 71(8.125,3.575) 72(8.125,4.225) 73(8.125,4.875) 74(8.125,5.525) 75(8.125,6.175) 76(8.125,6.825) 77(8.125,7.475) 78(8.125,8.125) 79(8.125,8.775) 80(8.125,9.425)
  oval 0.45x2.35 smd: 31(-6.175,-11.125) 32(-5.525,-11.125) 33(-4.875,-11.125) 34(-4.225,-11.125) 35(-3.575,-11.125) 36(-2.925,-11.125) 37(-2.275,-11.125) 38(-1.625,-11.125) 39(-0.975,-11.125) 40(-0.325,-11.125) 41(0.325,-11.125) 42(0.975,-11.125) 43(1.625,-11.125) 44(2.275,-11.125) 45(2.925,-11.125) 46(3.575,-11.125) 47(4.225,-11.125) 48(4.875,-11.125) 49(5.525,-11.125) 50(6.175,-11.125) 81(6.175,11.125) 82(5.525,11.125) 83(4.875,11.125) 84(4.225,11.125) 85(3.575,11.125) 86(2.925,11.125) 87(2.275,11.125) 88(1.625,11.125) 89(0.975,11.125) 90(0.325,11.125) 91(-0.325,11.125) 92(-0.975,11.125) 93(-1.625,11.125) 94(-2.275,11.125) 95(-2.925,11.125) 96(-3.575,11.125) 97(-4.225,11.125) 98(-4.875,11.125) 99(-5.525,11.125) 100(-6.175,11.125)
Top Overlay:
  circle w0.6: c-5.55,8.55 r0.3
  circle w0.25: c-8.125,10.2 r0.125
  lines w0.2: -6.55,-9.55 6.55,-9.55 6.55,9.55 -6.55,9.55 -6.55,-9.55
Mechanical 13:
  circle w0.1: c-6.1,9.1 r0.5
  lines w0.1: -7,-10 7,-10 7,10 -7,10 -7,-10
Mechanical 15:
  lines w0.1: -0.5,0 0.5,0 ; 0,-0.5 0,0.5 ; -9.8,-12.8 9.8,-12.8 9.8,12.8 -9.8,12.8 -9.8,-12.8
3D body: height 3.15, standoff 0, extent -7,-10 7,10

## 842B-01_N [mm] "100-Pin Quad Flat Pack Rectangular 0.65 mm Pitch, IPC Medium Density"
height 3.15
pads (100):
  oval 2.05x0.45 smd: 1(-8.075,9.425) 2(-8.075,8.775) 3(-8.075,8.125) 4(-8.075,7.475) 5(-8.075,6.825) 6(-8.075,6.175) 7(-8.075,5.525) 8(-8.075,4.875) 9(-8.075,4.225) 10(-8.075,3.575) 11(-8.075,2.925) 12(-8.075,2.275) 13(-8.075,1.625) 14(-8.075,0.975) 15(-8.075,0.325) 16(-8.075,-0.325) 17(-8.075,-0.975) 18(-8.075,-1.625) 19(-8.075,-2.275) 20(-8.075,-2.925) 21(-8.075,-3.575) 22(-8.075,-4.225) 23(-8.075,-4.875) 24(-8.075,-5.525) 25(-8.075,-6.175) 26(-8.075,-6.825) 27(-8.075,-7.475) 28(-8.075,-8.125) 29(-8.075,-8.775) 30(-8.075,-9.425) 51(8.075,-9.425) 52(8.075,-8.775) 53(8.075,-8.125) 54(8.075,-7.475) 55(8.075,-6.825) 56(8.075,-6.175) 57(8.075,-5.525) 58(8.075,-4.875) 59(8.075,-4.225) 60(8.075,-3.575) 61(8.075,-2.925) 62(8.075,-2.275) 63(8.075,-1.625) 64(8.075,-0.975) 65(8.075,-0.325) 66(8.075,0.325) 67(8.075,0.975) 68(8.075,1.625) 69(8.075,2.275) 70(8.075,2.925) 71(8.075,3.575) 72(8.075,4.225) 73(8.075,4.875) 74(8.075,5.525) 75(8.075,6.175) 76(8.075,6.825) 77(8.075,7.475) 78(8.075,8.125) 79(8.075,8.775) 80(8.075,9.425)
  oval 0.45x2.05 smd: 31(-6.175,-11.075) 32(-5.525,-11.075) 33(-4.875,-11.075) 34(-4.225,-11.075) 35(-3.575,-11.075) 36(-2.925,-11.075) 37(-2.275,-11.075) 38(-1.625,-11.075) 39(-0.975,-11.075) 40(-0.325,-11.075) 41(0.325,-11.075) 42(0.975,-11.075) 43(1.625,-11.075) 44(2.275,-11.075) 45(2.925,-11.075) 46(3.575,-11.075) 47(4.225,-11.075) 48(4.875,-11.075) 49(5.525,-11.075) 50(6.175,-11.075) 81(6.175,11.075) 82(5.525,11.075) 83(4.875,11.075) 84(4.225,11.075) 85(3.575,11.075) 86(2.925,11.075) 87(2.275,11.075) 88(1.625,11.075) 89(0.975,11.075) 90(0.325,11.075) 91(-0.325,11.075) 92(-0.975,11.075) 93(-1.625,11.075) 94(-2.275,11.075) 95(-2.925,11.075) 96(-3.575,11.075) 97(-4.225,11.075) 98(-4.875,11.075) 99(-5.525,11.075) 100(-6.175,11.075)
Top Overlay:
  circle w0.6: c-5.65,8.65 r0.3
  circle w0.25: c-8.075,10.2 r0.125
  lines w0.2: -6.65,-9.65 6.65,-9.65 6.65,9.65 -6.65,9.65 -6.65,-9.65
Mechanical 13:
  circle w0.1: c-6.1,9.1 r0.5
  lines w0.1: -7,-10 7,-10 7,10 -7,10 -7,-10
Mechanical 15:
  lines w0.1: -0.5,0 0.5,0 ; 0,-0.5 0,0.5 ; -9.35,-12.35 9.35,-12.35 9.35,12.35 -9.35,12.35 -9.35,-12.35
3D body: height 3.15, standoff 0, extent -7,-10 7,10